# Altium footprint library PcbLib_litle4bit.PcbLib: 1 footprints
Each footprint in its own frame and in the unit in brackets; x right, y up, seen from the top. Pads: shape width x height; smd on the part's side, far side on the other; paste and mask are expansions set on the pad; w line width, h text height; cw(c..) or ccw(c..) is an arc to the next point about the centre after c.
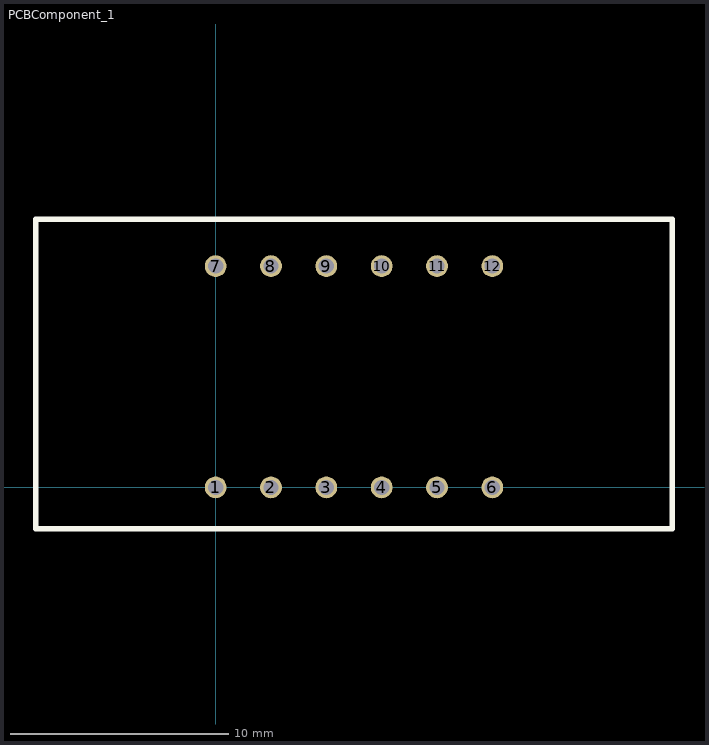
[diagram p0: the footprint, top view; thin cyan lines are the x and y axes]

## PCBComponent_1 [mm]
pads (12):
  round 1 hole 0.7: 1(0,0) 2(2.54,0) 3(5.08,0) 4(7.62,0) 5(10.16,0) 6(12.7,0) 7(0,10.16) 8(2.54,10.16) 9(5.08,10.16) 10(7.62,10.16) 11(10.16,10.16) 12(12.7,10.16)
Top Overlay:
  lines w0.254: -8.255,-1.905 -8.255,12.319 20.955,12.319 20.955,-1.905 -8.255,-1.905